# Altium footprint library SSL-2020-PcbLib1.PcbLib: 31 footprints (part 1 of 2)
Each footprint in its own frame and in the unit in brackets; x right, y up, seen from the top. Pads: shape width x height; smd on the part's side, far side on the other; paste and mask are expansions set on the pad; w line width, h text height; cw(c..) or ccw(c..) is an arc to the next point about the centre after c.
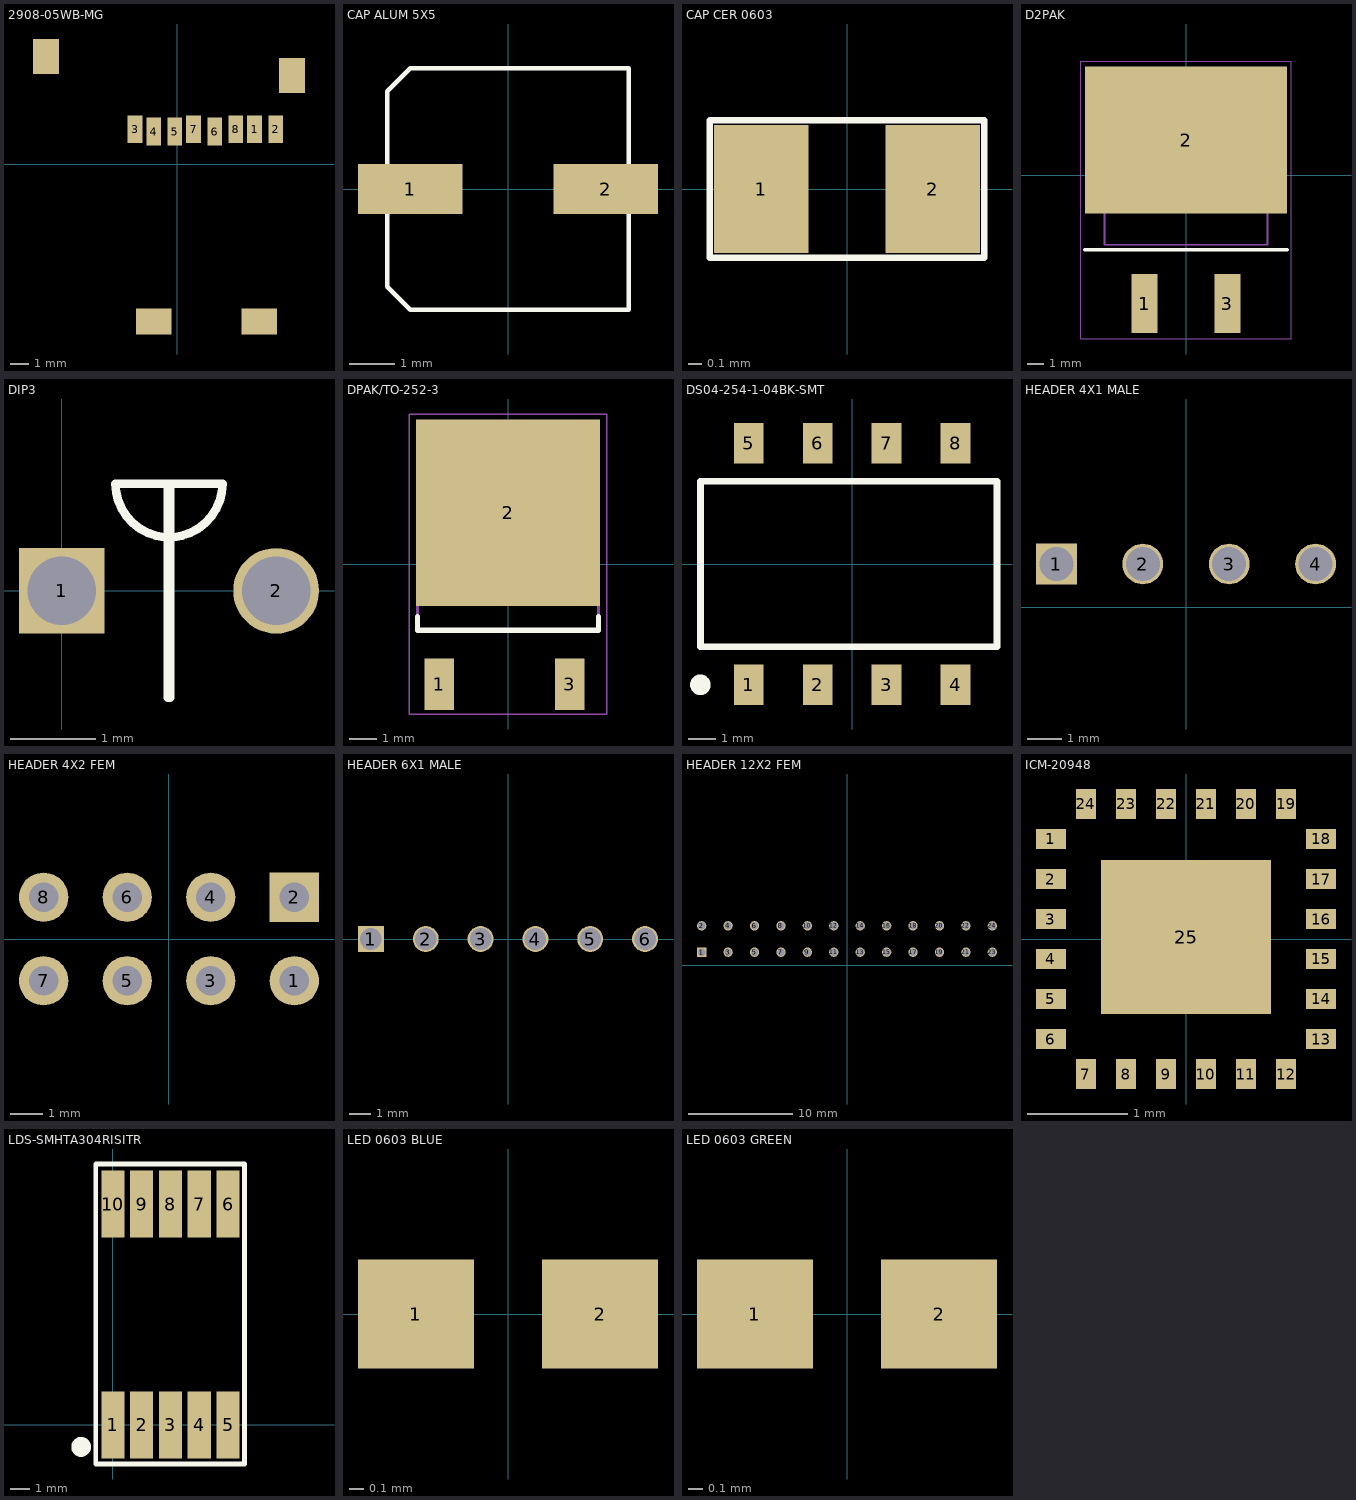
[diagram p0: the footprints below, top view; thin cyan lines are the x and y axes]

## 2908-05WB-MG [mm]
pads (12):
  rect 0.8x1.5 smd: 1(4.191,1.905) 2(5.334,1.905) 3(-2.286,1.905) 4(-1.27,1.778) 5(-0.127,1.778) 6(2.032,1.778) 7(0.889,1.905) 8(3.175,1.905)
  rect 1.4x1.9 smd: ""(-7.112,5.842) ""(6.223,4.826)
  rect 1.9x1.4 smd: ""(-1.27,-8.509) ""(4.445,-8.509)
3D body "2908-05WB-MG--3DModel-STEP-56544.STEP": height 1.85, standoff 0, extent -7.381,-8.743 6.619,6.457

## CAP ALUM 5X5 [mm]
pads (2):
  rect 2.3x1.1 smd: 1(-2.159,0) 2(2.159,0)
Top Overlay:
  lines w0.1: -2.667,-2.159 -2.667,2.159 -2.159,2.667 2.667,2.667 2.667,-2.667 -2.159,-2.667 -2.667,-2.159
3D body "CAP ALUM 5X5.STEP": height 5.52, standoff -0.4, extent -3.048,-2.667 3.048,2.667

## CAP CER 0603 [mm]
pads (2):
  rect 0.7x0.95 smd: 1(-0.635,0) 2(0.635,0)
Top Overlay:
  lines w0.05: -1.016,-0.508 1.016,-0.508 1.016,0.508 -1.016,0.508 -1.016,-0.055 -1.016,-0.508
3D body "CAP CER 0603.STEP": height 0.9, standoff 0, extent -0.8,-0.4 0.8,0.4

## D2PAK [mm]
pads (3):
  rect 1.6x3.6 smd: 1(-2.54,-7.874) 3(2.54,-7.874)
  rect 12.4x9 smd: 2(0,2.159)
Top Overlay:
  lines w0.2: -6.223,-4.572 6.223,-4.572
Mechanical 13:
  lines w0.1: -5,-4.274 -5,4.926 5,4.926 5,-4.274 -5,-4.274
Mechanical 15:
  lines w0.05: -6.45,-10.049 -6.45,7.001 6.45,7.001 6.45,-10.049 -6.45,-10.049
  lines w0.1: -0.5,-1.524 0.5,-1.524 ; 0,-2.024 0,-1.024
3D body "DPAK.step": height 4.88, standoff -0.13, extent -5.08,-9.017 5.08,6.247

## DIP3 [mm]
pads (2):
  rect 1x1 hole 0.8: 1(0,0)
  round 1 hole 0.8: 2(2.5,0)
Top Overlay:
  lines w0.1: 0.625,1.25 ccw(c1.25,1.25) 1.875,1.25 1.265,1.25 1.265,-1.25 1.235,-1.25 1.235,1.25 0.625,1.25

## DPAK/TO-252-3 [mm]
pads (3):
  rect 1.1x1.9 smd: 1(-2.54,-4.445) 3(2.286,-4.445)
  rect 6.8x6.9 smd: 2(0,1.9)
Top Overlay:
  lines w0.2: -3.35,-1.95 -3.35,-2.45 3.35,-2.45 3.35,-1.95
Mechanical 13:
  lines w0.1: -3.35,-2.45 3.35,-2.45 3.35,3.75 -3.35,3.75 -3.35,-2.45
Mechanical 15:
  lines w0.05: -3.65,-5.55 3.65,-5.55 3.65,5.55 -3.65,5.55 -3.65,-5.55
  lines w0.1: -0.5,0 0.5,0 ; 0,-0.5 0,0.5
3D body "TO-252-3.step": height 2.41, standoff 0, extent -3.477,-5.207 3.223,5.145

## DS04-254-1-04BK-SMT [mm]
pads (8):
  rect 1.1x1.5 smd: 1(-3.81,-4.45) 2(-1.27,-4.45) 3(1.27,-4.45) 4(3.81,-4.45) 5(-3.81,4.45) 6(-1.27,4.45) 7(1.27,4.45) 8(3.81,4.45)
Top Overlay:
  circle w0.5: c-5.588,-4.45 r0.127
  lines w0.254: -5.588,-3.048 -5.588,3.048 5.334,3.048 5.334,-3.048 -5.588,-3.048
3D body "CUI_DEVICES_DS04-254-1-04BK-SMT.step": height 4.55, standoff 0, extent -5.707,-4.953 5.453,4.947

## HEADER 4X1 MALE [mm]
pads (4):
  rect 1.2x1.2 hole 1: 1(-3.81,1.27)
  round 1.2 hole 1: 2(-1.27,1.27) 3(1.27,1.27) 4(3.81,1.27)
3D body "Header_Male_4X1.STEP": height 8.54, standoff -3, extent -5.08,0 5.08,2.49

## HEADER 4X2 FEM [mm]
pads (8):
  round 1.5 hole 0.9: 1(3.81,-1.27) 3(1.27,-1.27) 4(1.27,1.27) 5(-1.27,-1.27) 6(-1.27,1.27) 7(-3.81,-1.27) 8(-3.81,1.27)
  rect 1.5x1.5 hole 0.9: 2(3.81,1.27)
3D body "Header_Fem_4X2.STEP": height 8.5, standoff -3, extent -5.33,-2.5 5.33,2.5

## HEADER 6X1 MALE [mm]
pads (6):
  rect 1.2x1.2 hole 1: 1(-6.35,0)
  round 1.2 hole 1: 2(-3.81,0) 3(-1.27,0) 4(1.27,0) 5(3.81,0) 6(6.35,0)
3D body: height 1.2, standoff 0.02, extent -3.302,1.397 -3.302,1.397
3D body "Pin Header 1x6 TH Pitch 2.54mm.stp": height 9.49, standoff -3.2, extent -7.62,-1.27 7.62,1.27

## HEADER 12X1 FEM [mm]
3D body "Header_Fem_12X1.STEP": height 7.45, standoff 0, extent -12,-2 12,0

## HEADER 12X2 FEM [mm]
pads (24):
  rect 0.9x0.9 hole 0.7: 1(-13.97,1.27)
  round 0.9 hole 0.7: 2(-13.97,3.81) 3(-11.43,1.27) 4(-11.43,3.81) 5(-8.89,1.27) 6(-8.89,3.81) 7(-6.35,1.27) 8(-6.35,3.81) 9(-3.81,1.27) 10(-3.81,3.81) 11(-1.27,1.27) 12(-1.27,3.81) 13(1.27,1.27) 14(1.27,3.81) 15(3.81,1.27) 16(3.81,3.81) 17(6.35,1.27) 18(6.35,3.81) 19(8.89,1.27) 20(8.89,3.81) 21(11.43,1.27) 22(11.43,3.81) 23(13.97,1.27) 24(13.97,3.81)
3D body "M20-7831242.STEP": height 8, standoff -3.5, extent -15.44,0 15.44,5.04

## ICM-20948 [mm]
pads (25):
  rect 0.3x0.2 smd: 1(-1.35,1) 2(-1.35,0.6) 3(-1.35,0.2) 4(-1.35,-0.2) 5(-1.35,-0.6) 6(-1.35,-1) 13(1.35,-1) 14(1.35,-0.6) 15(1.35,-0.2) 16(1.35,0.2) 17(1.35,0.6) 18(1.35,1)
  rect 0.2x0.3 smd: 7(-1,-1.35) 8(-0.6,-1.35) 9(-0.2,-1.35) 10(0.2,-1.35) 11(0.6,-1.35) 12(1,-1.35) 19(1,1.35) 20(0.6,1.35) 21(0.2,1.35) 22(-0.2,1.35) 23(-0.6,1.35) 24(-1,1.35)
  rect 1.7x1.54 smd: 25(0,0.019)
3D body "User Library-ICM20948.sldprt": height 1, standoff 0, extent -1.505,-1.505 1.505,1.505

## LDS-SMHTA304RISITR [mm]
pads (10):
  rect 1.2x3.5 smd: 1(0,0) 2(1.5,0) 3(3,0) 4(4.5,0) 5(6,0) 6(6,11.5) 7(4.5,11.5) 8(3,11.5) 9(1.5,11.5) 10(0,11.5)
Top Overlay:
  circle w0.53: c-1.651,-1.143 r0.25
  lines w0.254: -0.889,-2.032 -0.889,13.589 6.858,13.589 6.858,-2.032 -0.889,-2.032

## LED 0603 BLUE [mm]
pads (2):
  rect 0.8x0.75 smd mask+0.05: 1(-0.635,0) 2(0.635,0)
3D body "LED_0603_B.STEP": height 0.6, standoff 0, extent -0.8,-0.4 0.8,0.4

## LED 0603 GREEN [mm]
pads (2):
  rect 0.8x0.75 smd mask+0.05: 1(-0.635,0) 2(0.635,0)
3D body "LED_0603_G.STEP": height 0.6, standoff 0, extent -0.8,-0.4 0.8,0.4